# Altium schematic symbol library TL3301NF160QG.SchLib: 1 symbol
Pins are listed as number, name and electrical type; pins without a type are passive.

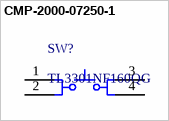
[diagram p0: symbol CMP-2000-07250-1]

## CMP-2000-07250-1
designator SW?, comment TL3301NF160QG
Tactile Switch, SPST-NO, 12 V, -20 to 70 degC, 4-Pin SMD, RoHS, Tape and Reel; Manufacturer: E-Switch; Maximum DC Voltage Rating: 12V; Illumination Type: N/R; Contact Rating @ Voltage: 0.05@12VDCA; Operating Force: 1.57N; Pole Throw Configuration: SPST; Electrical Life: 100000Cycles; Body Orientation: Straight; Minimum Insulation Resistance: 100MOhm; Switch Configuration: N.O.; Dielectric Strength: 250VAC; Actuator Style: RoundButton; Actuator Length: 0.7mm; Ground Terminal: No; Package Reference: TL3301NF160QG; Mounting Technology: SurfaceMount; Type: N/A; Datasheet URL: http://spec_sheets.e-switch.com/specs/P010515.pdf; Seal Description: N/A; Contact Plating: Silver; Dimension: 6x10x4.3mm; Family: TL; Packaging: TapeandReel; Contact Material: PhosphorBronze; Maximum AC Voltage Rating: N/A; Housing Material: PolyphenyleneSulfide,Nylon; Part No: TL3301NF160QG; RoHS: Yes; Package Description: 4-Pin Surface Mount Device, Body 6 x 6 mm; Datasheet Version: Rev. C, 12/2010; Base Material: N/A; Maximum Contact Resistance: 100mOhm; Mounting: SurfaceMount,GullWing; Operating Temperature: -20to70C; Mechanical Life: N/A; Manufacturer URL: http://www.e-switch.ch/en/; Actuator Color: N/A; Product Weight: N/A; Seal Location: N/A
footprint ESWI-TL3301NF160QG_V (SMD, 4-Leads, Body 6x6mm)
pins: 1, 2, 3, 4